# Altium footprint library smartcar_lib.PcbLib: 126 footprints (part 7 of 8)
Each footprint in its own frame and in the unit in brackets; x right, y up, seen from the top. Pads: shape width x height; smd on the part's side, far side on the other; paste and mask are expansions set on the pad; w line width, h text height; cw(c..) or ccw(c..) is an arc to the next point about the centre after c.
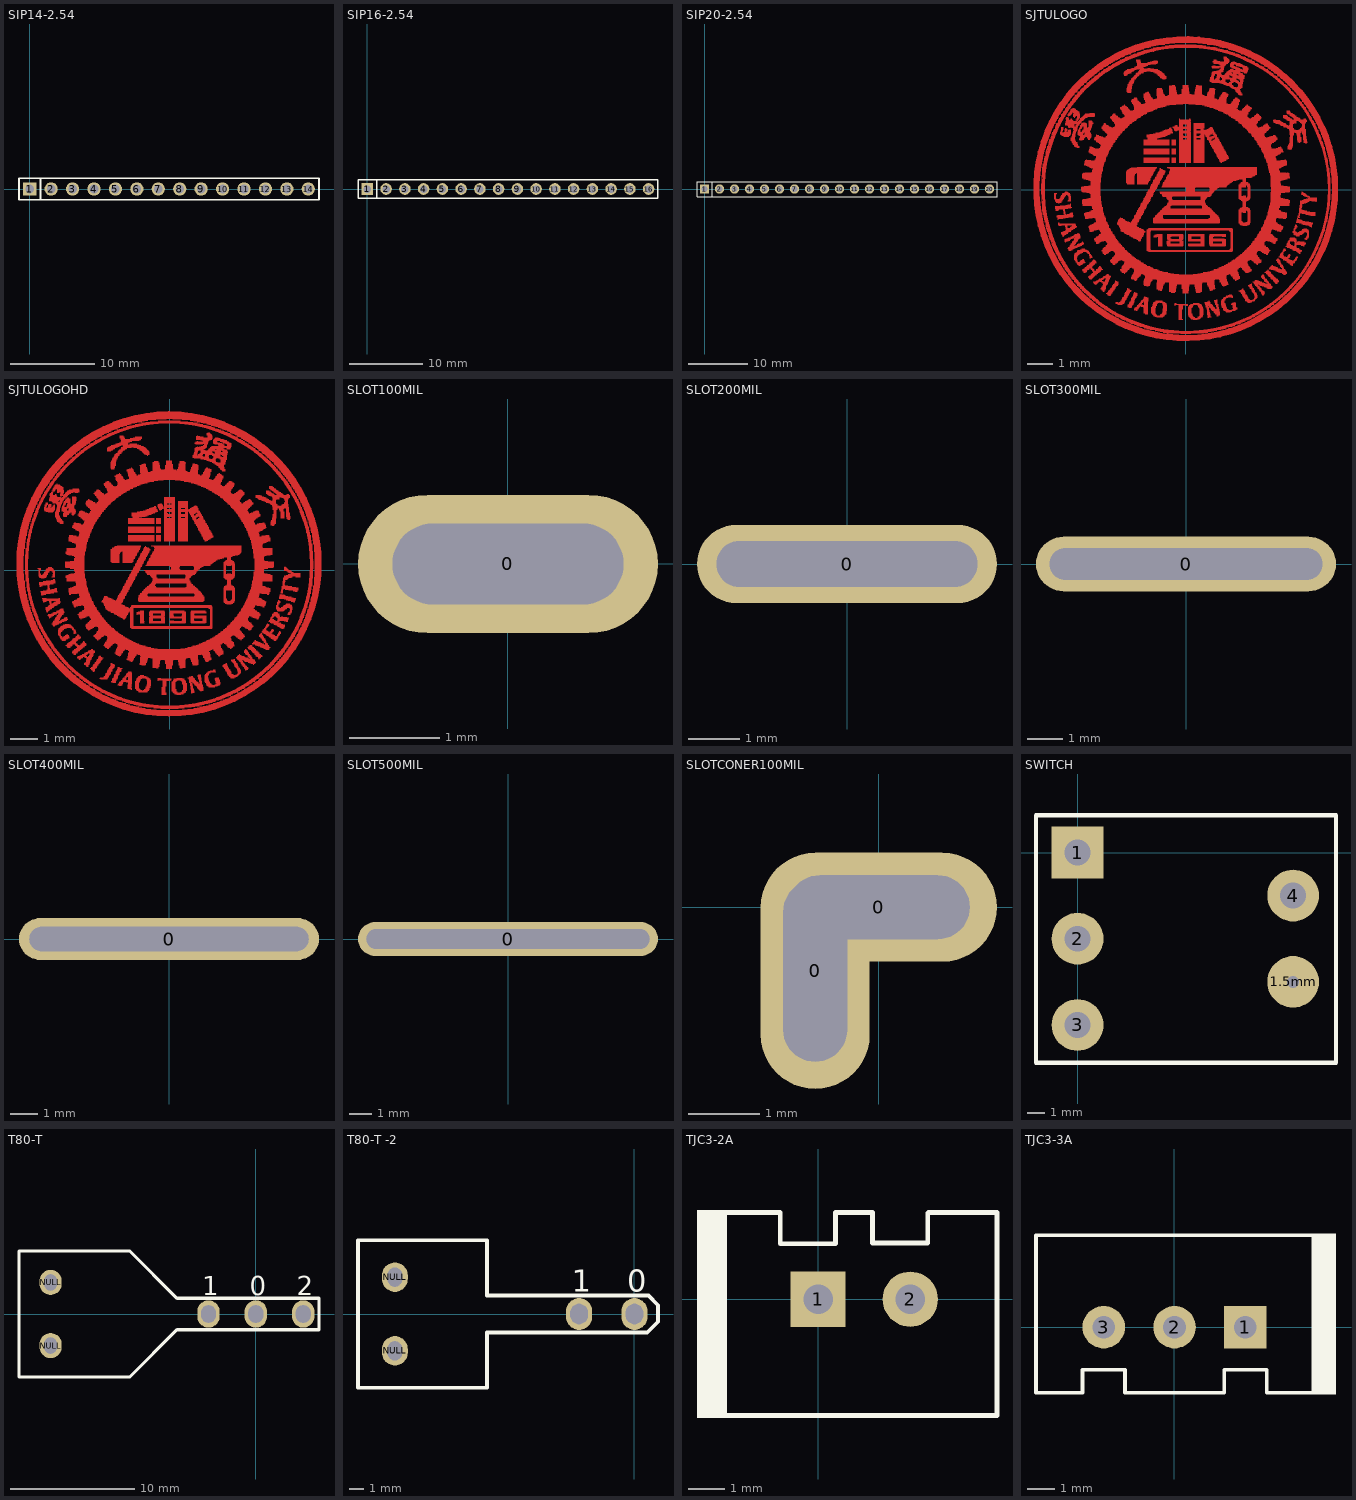
[diagram p6: the footprints below, top view; thin cyan lines are the x and y axes]

## SIP14-2.54 [mil]
pads (14):
  rect 62x62 hole 40: 1(0,0)
  round 62 hole 40: 2(100,0) 3(200,0) 4(300,0) 5(400,0) 6(500,0) 7(600,0) 8(700,0) 9(800,0) 10(900,0) 11(1000,0) 12(1100,0) 13(1200,0) 14(1300,0)
Top Overlay:
  lines w8: 50,-50 50,50 ; -50,-50 1350,-50 1350,50 -50,50 -50,-50

## SIP16-2.54 [mil]
pads (16):
  rect 62x62 hole 40: 1(0,0)
  round 62 hole 40: 2(100,0) 3(200,0) 4(300,0) 5(400,0) 6(500,0) 7(600,0) 8(700,0) 9(800,0) 10(900,0) 11(1000,0) 12(1100,0) 13(1200,0) 14(1300,0) 15(1400,0) 16(1500,0)
Top Overlay:
  lines w8: 50,-50 50,50 ; -50,-50 1550,-50 1550,50 -50,50 -50,-50

## SIP20-2.54 [mil]
pads (20):
  rect 62x62 hole 40: 1(0,0)
  round 62 hole 40: 2(100,0) 3(200,0) 4(300,0) 5(400,0) 6(500,0) 7(600,0) 8(700,0) 9(800,0) 10(900,0) 11(1000,0) 12(1100,0) 13(1200,0) 14(1300,0) 15(1400,0) 16(1500,0) 17(1600,0) 18(1700,0) 19(1800,0) 20(1900,0)
Top Overlay:
  lines w8: 50,-50 50,50 ; -50,-50 -50,50 1950,50 1950,-50 -50,-50

## SJTULOGO [mil]
Top Layer:
  drawing of 6176 lines, arcs and shapes, not listed

## SJTULOGOHD [mil]
Top Layer:
  drawing of 11130 lines, arcs and shapes, not listed

## SLOT100MIL [mil]
pads (1):
  oval 130x60 hole 35 slot 100 at 0 deg: 0(0,0)

## SLOT200MIL [mil]
pads (1):
  oval 230x60 hole 35 slot 200 at 0 deg: 0(0,0)

## SLOT300MIL [mil]
pads (1):
  oval 330x60 hole 35 slot 300 at 0 deg: 0(0,0)

## SLOT400MIL [mil]
pads (1):
  oval 430x60 hole 35 slot 400 at 0 deg: 0(0,0)

## SLOT500MIL [mil]
pads (1):
  oval 530x60 hole 35 slot 500 at 0 deg: 0(0,0)

## SLOTCONER100MIL [mil]
pads (2):
  oval 60x130 hole 35 slot 100 at 90 deg: 0(-35,-35)
  oval 130x60 hole 35 slot 100 at 0 deg: 0(0,0)

## SWITCH [mm]
pads (5):
  rect 3x3 hole 1.5: 1(0,0)
  round 3 hole 0.7: 1.5mm(12.5,-7.5)
  round 3 hole 1.5: 2(0,-5) 3(0,-10) 4(12.5,-2.5)
Top Overlay:
  lines w0.254: -2.413,-12.192 -2.413,2.159 14.986,2.159 14.986,-12.192 -2.413,-12.192

## T80-T [mm]
height 13
pads (5):
  oval 1.778x2.032 hole 1 slot 1.3 at 90 deg: NULL(-16.51,-2.54) NULL(-16.51,2.54)
  oval 1.8x2.2 hole 1.2 slot 1.4 at 90 deg: T80-T_IN(0,0) T80-T_OUT1(-3.81,0) T80-T_OUT2(3.81,0)
Top Overlay:
  lines w0.254: -19.05,-5.08 -10.16,-5.08 -6.35,-1.27 5.08,-1.27 5.08,1.27 -6.35,1.27 -10.16,5.08 -19.05,5.08 -19.05,-5.08
  text "2" at 3.302,1.524 h1.52
  text "1" at -4.318,1.524 h1.52
  text "0" at -0.508,1.524 h1.52

## T80-T -2 [mm]
height 13
pads (4):
  oval 1.778x2.032 hole 1 slot 1.3 at 90 deg: NULL(-16.51,-2.54) NULL(-16.51,2.54)
  oval 1.8x2.2 hole 1.2 slot 1.4 at 90 deg: T80-T_IN(0,0) T80-T_OUT1(-3.81,0)
Top Overlay:
  lines w0.254: -19.05,-5.08 -19.05,5.08 -10.16,5.08 -10.16,1.27 -6.35,1.27 0.965,1.27 1.626,0.61 1.626,-0.533 0.889,-1.27 -6.35,-1.27 -10.16,-1.27 -10.16,-5.08 -19.05,-5.08
  text "0" at -0.508,1.524 h1.52
  text "1" at -4.318,1.524 h1.52

## TJC3-2A [mil]
pads (2):
  rect 60x60 hole 32: 1(0,0)
  round 60 hole 32: 2(100,0)
Top Overlay:
  region: -98.84,96.5 -131.17,96.5 -131.17,-128.5 -98.84,-128.5
  lines w5: -105,-126 194,-126 194,94 119.48,94 ; -104,94 -87,94 -41,94 -41,60 19,60 19,94 59,94 59,61 119,61 119,93.52

## TJC3-3A [mil]
pads (3):
  rect 60x60 hole 32: 1(100.17,0)
  round 60 hole 32: 2(0.17,0) 3(-99.83,0)
Top Overlay:
  rectangle: 195.84,-95.1 228.17,132.4
  lines w5: -195.5,-92.52 -195.5,129.92 195.84,129.92 195.84,-92.52 130.17,-92.52 130.17,-60 70.17,-60 70.17,-92.52 -69.83,-92.52 -69.83,-60 -129.83,-60 -129.83,-92.52 -195.5,-92.52